# Altium schematic symbol library Custom_components.SchLib: 4 symbols
Pins are listed as number, name and electrical type; pins without a type are passive.

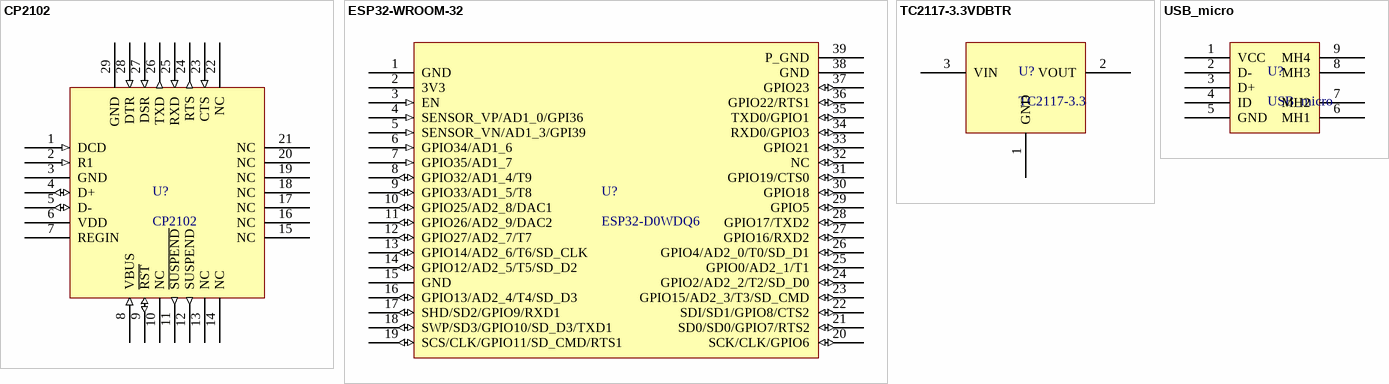
[diagram p0: symbols CP2102 to USB_micro]

## CP2102
designator U?
USB Interface IC USB to UART Bridge QFN28
footprint *QFN28G_0.5-5X5MM
pins: 1 DCD (in), 2 R1 (in), 3 GND (power), 4 D+ (io), 5 D- (io), 6 VDD, 7 REGIN, 8 VBUS (in), 9 ~{RST} (io), 10 NC (power), 11 ~{SUSPEND} (out), 12 SUSPEND (out), 13 NC, 14 NC, 15 NC, 16 NC, 17 NC, 18 NC, 19 NC, 20 NC, 21 NC, 22 NC, 23 CTS (in), 24 RTS (out), 25 RXD (in), 26 TXD (out), 27 DSR (in), 28 DTR (in), 29 GND (power)

## ESP32-WROOM-32
designator U?, comment ESP32-D0WDQ6
footprint ESP32WROOM32D
pins: 1 GND (power), 2 3V3 (power), 3 EN (in), 4 SENSOR_VP/AD1_0/GPI36 (in), 5 SENSOR_VN/AD1_3/GPI39 (in), 6 GPIO34/AD1_6 (in), 7 GPIO35/AD1_7 (in), 8 GPIO32/AD1_4/T9 (io), 9 GPIO33/AD1_5/T8 (io), 10 GPIO25/AD2_8/DAC1 (io), 11 GPIO26/AD2_9/DAC2 (io), 12 GPIO27/AD2_7/T7 (io), 13 GPIO14/AD2_6/T6/SD_CLK (io), 14 GPIO12/AD2_5/T5/SD_D2 (io), 15 GND (power), 16 GPIO13/AD2_4/T4/SD_D3 (io), 17 SHD/SD2/GPIO9/RXD1 (io), 18 SWP/SD3/GPIO10/SD_D3/TXD1 (io), 19 SCS/CLK/GPIO11/SD_CMD/RTS1 (io), 20 SCK/CLK/GPIO6 (io), 21 SD0/SD0/GPIO7/RTS2 (io), 22 SDI/SD1/GPIO8/CTS2 (io), 23 GPIO15/AD2_3/T3/SD_CMD (io), 24 GPIO2/AD2_2/T2/SD_D0 (io), 25 GPIO0/AD2_1/T1 (io), 26 GPIO4/AD2_0/T0/SD_D1 (io), 27 GPIO16/RXD2 (io), 28 GPIO17/TXD2 (io), 29 GPIO5 (io), 30 GPIO18 (io), 31 GPIO19/CTS0 (io), 32 NC (io), 33 GPIO21 (io), 34 RXD0/GPIO3 (io), 35 TXD0/GPIO1 (io), 36 GPIO22/RTS1 (io), 37 GPIO23 (io), 38 GND (power), 39 P_GND (power)

## TC2117-3.3VDBTR
designator U?, comment TC2117-3.3
LDO Voltage Regulators 800mA Fixed Output
footprint *SOT230P700X180-4N
pins: 1 GND (power), 2 VOUT (power), 3 VIN (power)

## USB_micro
designator U?
USB_micro_5S_B
pins: 1 VCC (power), 2 D-, 3 D+, 4 ID, 5 GND (power), 6 MH1, 7 MH2, 8 MH3, 9 MH4